# Altium schematic symbol library ARM_DDR.SchLib: 4 symbols
Pins are listed as number, name and electrical type; pins without a type are passive.

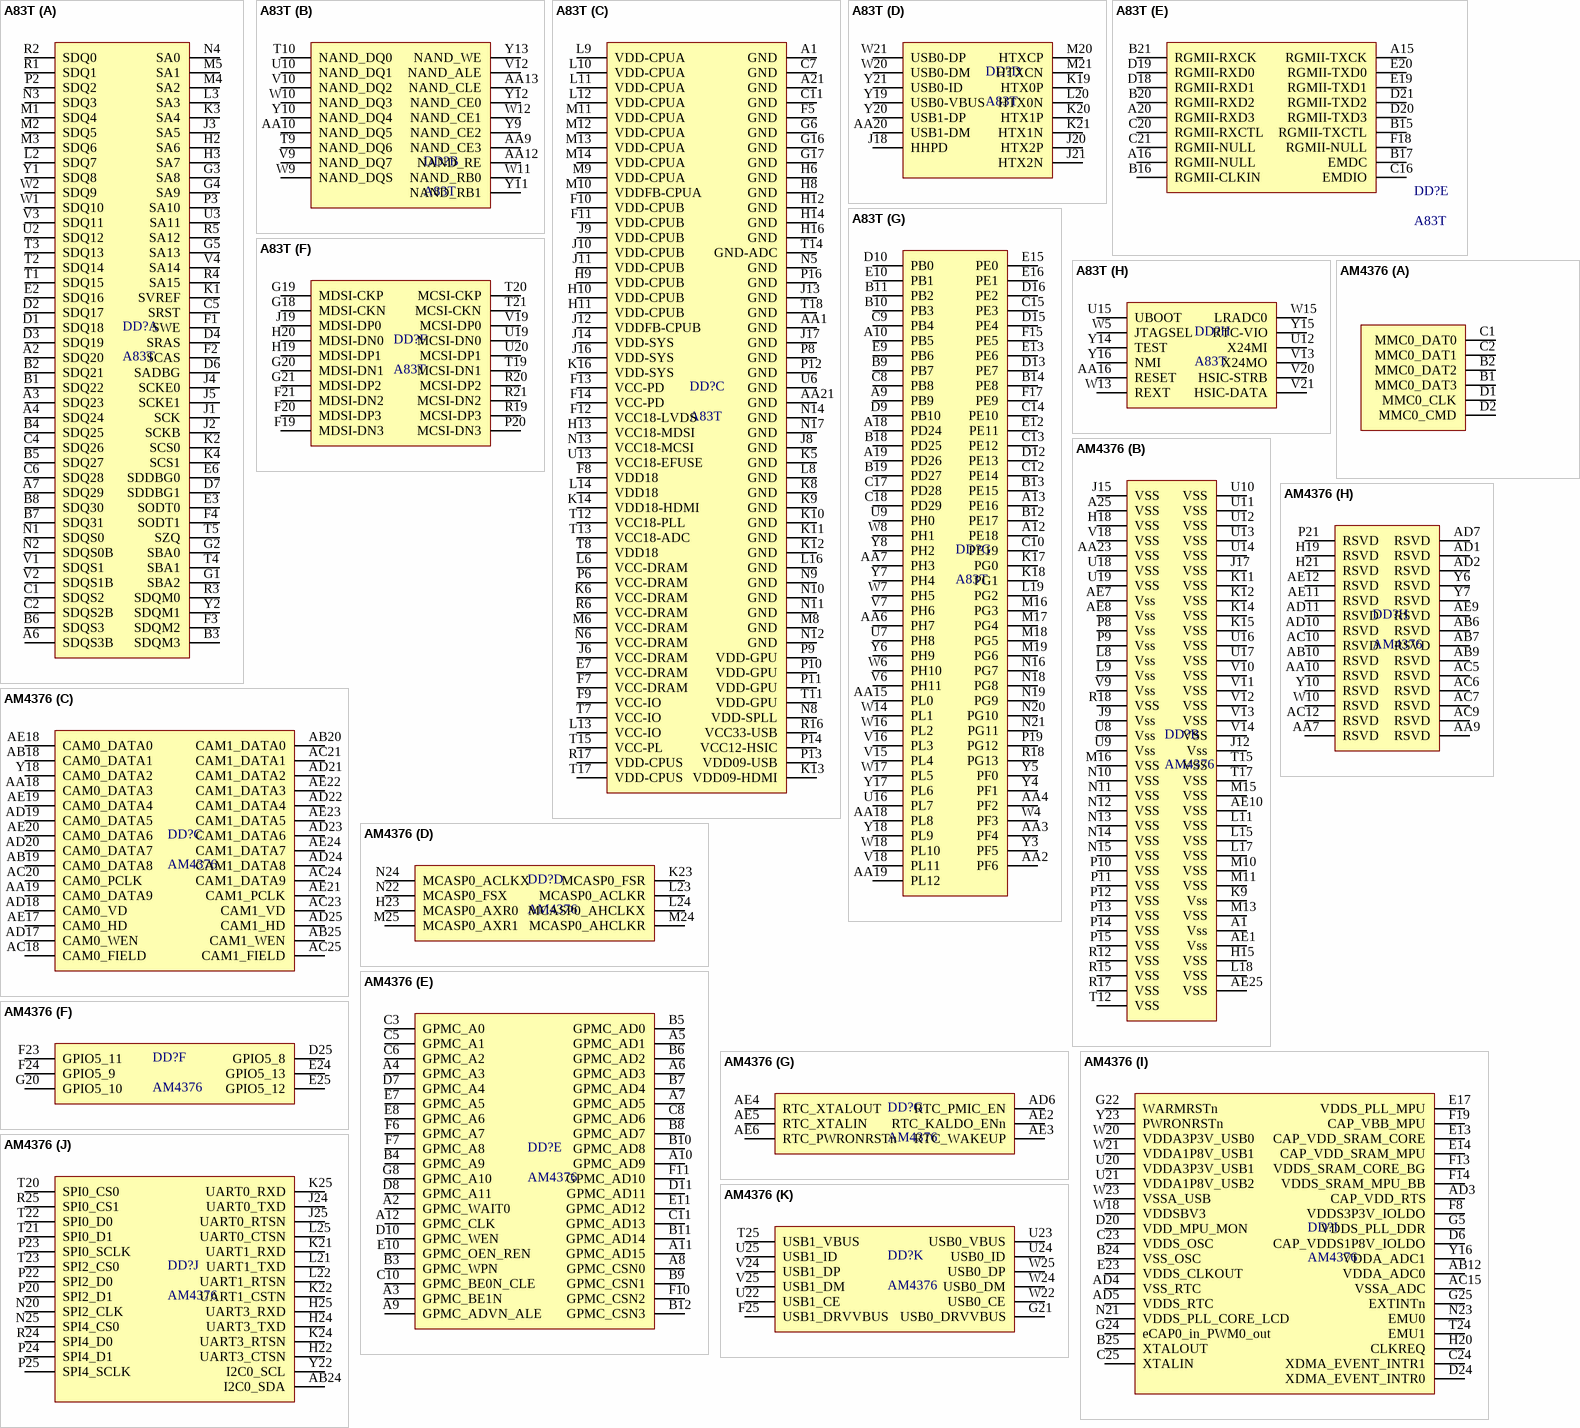
[diagram p0: symbols A83T to AM4376]

## A83T
designator DD?
footprint BGA345
part A pins: A2 SDQ20 (power), A3 SDQ23 (power), A4 SDQ24 (power), A6 SDQS3B (power), A7 SDQ29 (power), B1 SDQ22 (power), B2 SDQ21 (power), B3 SDQM3 (power), B4 SDQ25 (power), B5 SDQ27 (power), B6 SDQS3 (power), B7 SDQ31 (power), B8 SDQ30 (power), C1 SDQS2 (power), C2 SDQS2B (power), C4 SDQ26 (power), C5 SRST (power), C6 SDQ28 (power), D1 SDQ18 (power), D2 SDQ17 (power), D3 SDQ19 (power), D4 SRAS (power), D6 SADBG (power), D7 SDDBG1 (power), E2 SDQ16 (power), E3 SODT0 (power), E6 SDDBG0 (power), F1 SWE (power), F2 SCAS (power), F3 SDQM2 (power), F4 SODT1 (power), G1 SBA2 (power), G2 SBA0 (power), G3 SA8 (power), G4 SA9 (power), G5 SA13 (power), H2 SA6 (power), H3 SA7 (power), J1 SCK (power), J2 SCKB (power), J3 SA5 (power), J4 SCKE0 (power), J5 SCKE1 (power), K1 SVREF (power), K2 SCS0 (power), K3 SA4 (power), K4 SCS1 (power), L2 SDQ7 (power), L3 SA3 (power), M1 SDQ4 (power), M2 SDQ5 (power), M3 SDQ6 (power), M4 SA2 (power), M5 SA1 (power), N1 SDQS0 (power), N2 SDQS0B (power), N3 SDQ3 (power), N4 SA0 (power), P2 SDQ2 (power), P3 SA10 (power), R1 SDQ1 (power), R2 SDQ0 (power), R3 SDQM0 (power), R4 SA15 (power), R5 SA12 (power), T1 SDQ15 (power), T2 SDQ14 (power), T3 SDQ13 (power), T4 SBA1 (power), T5 SZQ (power), U2 SDQ12 (power), U3 SA11 (power), V1 SDQS1 (power), V2 SDQS1B (power), V3 SDQ11 (power), V4 SA14 (power), W1 SDQ10 (power), W2 SDQ9 (power), Y1 SDQ8 (power), Y2 SDQM1 (power)
part B pins: AA9 NAND_CE3 (power), AA10 NAND_DQ5 (power), AA12 NAND_RE (power), AA13 NAND_CLE (power), T9 NAND_DQ6 (power), T10 NAND_DQ0 (power), U10 NAND_DQ1 (power), V9 NAND_DQ7 (power), V10 NAND_DQ2 (power), V12 NAND_ALE (power), W9 NAND_DQS (power), W10 NAND_DQ3 (power), W11 NAND_RB0 (power), W12 NAND_CE1 (power), Y9 NAND_CE2 (power), Y10 NAND_DQ4 (power), Y11 NAND_RB1 (power), Y12 NAND_CE0 (power), Y13 NAND_WE (power)
part C pins: A1 GND (power), A21 GND (power), AA1 GND (power), AA21 GND (power), C7 GND (power), C11 GND (power), E7 VCC-DRAM (power), F5 GND (power), F7 VCC-DRAM (power), F8 VDD18 (power), F9 VCC-IO (power), F10 VDD-CPUB (power), F11 VDD-CPUB (power), F12 VCC18-LVDS (power), F13 VCC-PD (power), F14 VCC-PD (power), G6 GND (power), G16 GND (power), G17 GND (power), H6 GND (power), H8 GND (power), H9 VDD-CPUB (power), H10 VDD-CPUB (power), H11 VDD-CPUB (power), H12 GND (power), H13 VCC18-MDSI (power), H14 GND (power), H16 GND (power), J6 VCC-DRAM (power), J8 GND (power), J9 VDD-CPUB (power), J10 VDD-CPUB (power), J11 VDD-CPUB (power), J12 VDDFB-CPUB (power), J13 GND (power), J14 VDD-SYS (power), J16 VDD-SYS (power), J17 GND (power), K5 GND (power), K6 VCC-DRAM (power), K8 GND (power), K9 GND (power), K10 GND (power), K11 GND (power), K12 GND (power), K13 VDD09-HDMI (power), K14 VDD18-HDMI (power), K16 VDD-SYS (power), L6 VCC-DRAM (power), L8 GND (power), L9 VDD-CPUA (power), L10 VDD-CPUA (power), L11 VDD-CPUA (power), L12 VDD-CPUA (power), L13 VCC-IO (power), L14 VDD18 (power), L16 GND (power), M6 VCC-DRAM (power), M8 GND (power), M9 VDD-CPUA (power), M10 VDDFB-CPUA (power), M11 VDD-CPUA (power), M12 VDD-CPUA (power), M13 VDD-CPUA (power), M14 VDD-CPUA (power), N5 GND (power), N6 VCC-DRAM (power), N8 VDD-SPLL (power), N9 GND (power), N10 GND (power), N11 GND (power), N12 GND (power), N13 VCC18-MCSI (power), N14 GND (power), N17 GND (power), P6 VCC-DRAM (power), P8 GND (power), P9 VDD-GPU (power), P10 VDD-GPU (power), P11 VDD-GPU (power), P12 GND (power), P13 VDD09-USB (power), P14 VCC12-HSIC (power), P16 GND (power), R6 VCC-DRAM (power), R16 VCC33-USB (power), R17 VDD-CPUS (power), T7 VCC-IO (power), T8 VDD18 (power), T11 VDD-GPU (power), T12 VCC18-PLL (power), T13 VCC18-ADC (power), T14 GND-ADC (power), T15 VCC-PL (power), T17 VDD-CPUS (power), T18 GND (power), U6 GND (power), U13 VCC18-EFUSE (power)
part D pins: AA20 USB1-DM (power), J18 HHPD (power), J20 HTX2P (power), J21 HTX2N (power), K19 HTX0P (power), K20 HTX1P (power), K21 HTX1N (power), L20 HTX0N (power), M20 HTXCP (power), M21 HTXCN (power), W20 USB0-DM (power), W21 USB0-DP (power), Y19 USB0-VBUS (power), Y20 USB1-DP (power), Y21 USB0-ID (power)
part E pins: A15 RGMII-TXCK (power), A16 RGMII-NULL (power), A20 RGMII-RXD3 (power), B15 RGMII-TXCTL (power), B16 RGMII-CLKIN (power), B17 EMDC (power), B20 RGMII-RXD2 (power), B21 RGMII-RXCK (power), C16 EMDIO (power), C20 RGMII-RXCTL (power), C21 RGMII-NULL (power), D18 RGMII-RXD1 (power), D19 RGMII-RXD0 (power), D20 RGMII-TXD3 (power), D21 RGMII-TXD2 (power), E19 RGMII-TXD1 (power), E20 RGMII-TXD0 (power), F18 RGMII-NULL (power)
part F pins: F19 MDSI-DN3 (power), F20 MDSI-DP3 (power), F21 MDSI-DN2 (power), G18 MDSI-CKN (power), G19 MDSI-CKP (power), G20 MDSI-DN1 (power), G21 MDSI-DP2 (power), H19 MDSI-DP1 (power), H20 MDSI-DN0 (power), J19 MDSI-DP0 (power), P20 MCSI-DN3 (power), R19 MCSI-DP3 (power), R20 MCSI-DP2 (power), R21 MCSI-DN2 (power), T19 MCSI-DN1 (power), T20 MCSI-CKP (power), T21 MCSI-CKN (power), U19 MCSI-DN0 (power), U20 MCSI-DP1 (power), V19 MCSI-DP0 (power)
part G pins: A9 PB9 (power), A10 PB5 (power), A12 PE18 (power), A13 PE16 (power), A18 PD24 (power), A19 PD26 (power), AA2 PF6 (power), AA3 PF4 (power), AA4 PF2 (power), AA6 PH7 (power), AA7 PH3 (power), AA15 PL0 (power), AA18 PL8 (power), AA19 PL12 (power), B9 PB7 (power), B10 PB3 (power), B11 PB2 (power), B12 PE17 (power), B13 PE15 (power), B14 PE8 (power), B18 PD25 (power), B19 PD27 (power), C8 PB8 (power), C9 PB4 (power), C10 PE19 (power), C12 PE14 (power), C13 PE12 (power), C14 PE10 (power), C15 PE3 (power), C17 PD28 (power), C18 PD29 (power), D9 PB10 (power), D10 PB0 (power), D12 PE13 (power), D13 PE7 (power), D15 PE4 (power), D16 PE2 (power), E9 PB6 (power), E10 PB1 (power), E12 PE11 (power), E13 PE6 (power), E15 PE0 (power), E16 PE1 (power), F15 PE5 (power), F17 PE9 (power), K17 PG0 (power), K18 PG1 (power), L19 PG2 (power), M16 PG3 (power), M17 PG4 (power), M18 PG5 (power), M19 PG6 (power), N16 PG7 (power), N18 PG8 (power), N19 PG9 (power), N20 PG10 (power), N21 PG11 (power), P19 PG12 (power), R18 PG13 (power), U7 PH8 (power), U9 PH0 (power), U16 PL7 (power), V6 PH11 (power), V7 PH6 (power), V15 PL4 (power), V16 PL3 (power), V18 PL11 (power), W4 PF3 (power), W6 PH10 (power), W7 PH5 (power), W8 PH1 (power), W14 PL1 (power), W16 PL2 (power), W17 PL5 (power), W18 PL10 (power), Y3 PF5 (power), Y4 PF1 (power), Y5 PF0 (power), Y6 PH9 (power), Y7 PH4 (power), Y8 PH2 (power), Y17 PL6 (power), Y18 PL9 (power)
part H pins: AA16 RESET (power), U12 X24MI (power), U15 UBOOT (power), V13 X24MO (power), V20 HSIC-STRB (power), V21 HSIC-DATA (power), W5 JTAGSEL (power), W13 REXT (power), W15 LRADC0 (power), Y14 TEST (power), Y15 RTC-VIO (power), Y16 NMI (power)

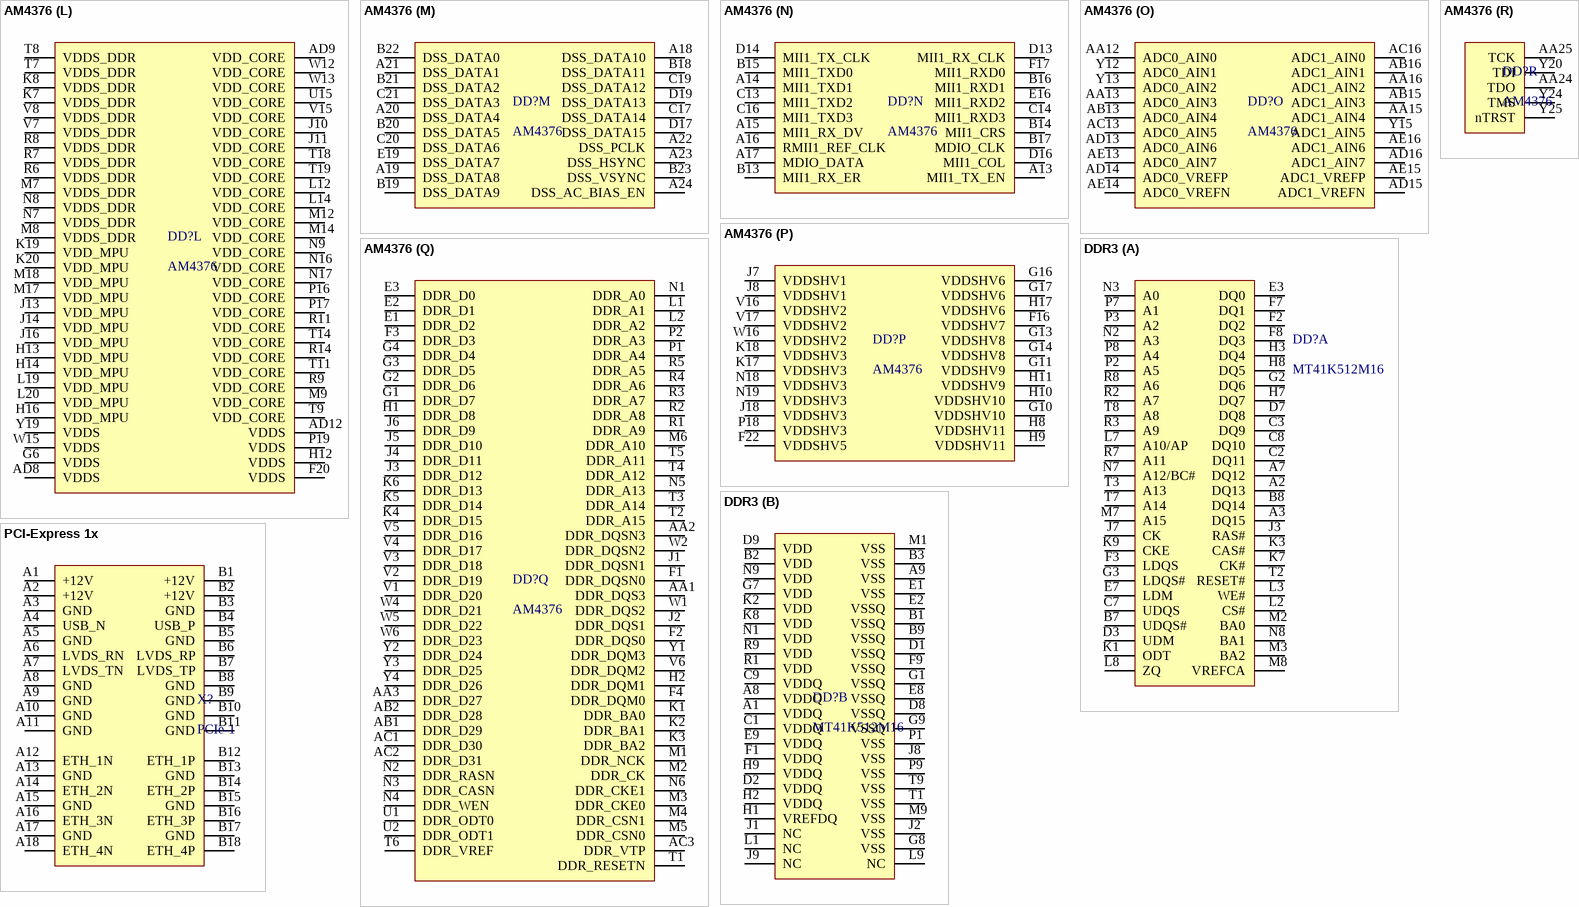
[diagram p1: symbols AM4376 to PCI-Express 1x]

## AM4376
designator DD?
footprint BGA491
part A pins: B1 MMC0_DAT3 (power), B2 MMC0_DAT2 (power), C1 MMC0_DAT0 (power), C2 MMC0_DAT1 (power), D1 MMC0_CLK (power), D2 MMC0_CMD (power)
part B pins: A1 Vss (power), A25 VSS (power), AA23 VSS (power), AE1 Vss (power), AE7 Vss (power), AE8 Vss (power), AE10 VSS (power), AE25 VSS (power), H15 VSS (power), H18 VSS (power), J9 Vss (power), J12 Vss (power), J15 VSS (power), J17 VSS (power), K9 Vss (power), K11 VSS (power), K12 VSS (power), K14 VSS (power), K15 VSS (power), L8 Vss (power), L9 Vss (power), L11 VSS (power), L15 VSS (power), L17 VSS (power), L18 VSS (power), M10 VSS (power), M11 VSS (power), M13 VSS (power), M15 VSS (power), M16 VSS (power), N10 VSS (power), N11 VSS (power), N12 VSS (power), N13 VSS (power), N14 VSS (power), N15 VSS (power), P8 Vss (power), P9 Vss (power), P10 VSS (power), P11 VSS (power), P12 VSS (power), P13 VSS (power), P14 VSS (power), P15 VSS (power), R12 VSS (power), R15 VSS (power), R17 VSS (power), R18 VSS (power), T12 VSS (power), T15 VSS (power), T17 VSS (power), U8 Vss (power), U9 Vss (power), U10 VSS (power), U11 VSS (power), U12 VSS (power), U13 VSS (power), U14 VSS (power), U16 VSS (power), U17 VSS (power), U18 VSS (power), U19 VSS (power), V9 Vss (power), V10 VSS (power), V11 VSS (power), V12 VSS (power), V13 VSS (power), V14 VSS (power), V18 VSS (power)
part C pins: AA18 CAM0_DATA3 (power), AA19 CAM0_DATA9 (power), AB18 CAM0_DATA1 (power), AB19 CAM0_DATA8 (power), AB20 CAM1_DATA0 (power), AB25 CAM1_WEN (power), AC18 CAM0_FIELD (power), AC20 CAM0_PCLK (power), AC21 CAM1_DATA1 (power), AC23 CAM1_VD (power), AC24 CAM1_DATA9 (power), AC25 CAM1_FIELD (power), AD17 CAM0_WEN (power), AD18 CAM0_VD (power), AD19 CAM0_DATA5 (power), AD20 CAM0_DATA7 (power), AD21 CAM1_DATA2 (power), AD22 CAM1_DATA4 (power), AD23 CAM1_DATA6 (power), AD24 CAM1_DATA8 (power), AD25 CAM1_HD (power), AE17 CAM0_HD (power), AE18 CAM0_DATA0 (power), AE19 CAM0_DATA4 (power), AE20 CAM0_DATA6 (power), AE21 CAM1_PCLK (power), AE22 CAM1_DATA3 (power), AE23 CAM1_DATA5 (power), AE24 CAM1_DATA7 (power), Y18 CAM0_DATA2 (power)
part D pins: H23 MCASP0_AXR0 (power), K23 MCASP0_FSR (power), L23 MCASP0_ACLKR (power), L24 MCASP0_AHCLKX (power), M24 MCASP0_AHCLKR (power), M25 MCASP0_AXR1 (power), N22 MCASP0_FSX (power), N24 MCASP0_ACLKX (power)
part E pins: A2 GPMC_WAIT0 (power), A3 GPMC_BE1N (power), A4 GPMC_A3 (power), A5 GPMC_AD1 (power), A6 GPMC_AD3 (power), A7 GPMC_AD5 (power), A8 GPMC_CSN0 (power), A9 GPMC_ADVN_ALE (power), A10 GPMC_AD9 (power), A11 GPMC_AD15 (power), A12 GPMC_CLK (power), B3 GPMC_WPN (power), B4 GPMC_A9 (power), B5 GPMC_AD0 (power), B6 GPMC_AD2 (power), B7 GPMC_AD4 (power), B8 GPMC_AD7 (power), B9 GPMC_CSN1 (power), B10 GPMC_AD8 (power), B11 GPMC_AD14 (power), B12 GPMC_CSN3 (power), C3 GPMC_A0 (power), C5 GPMC_A1 (power), C6 GPMC_A2 (power), C8 GPMC_AD6 (power), C10 GPMC_BE0N_CLE (power), C11 GPMC_AD13 (power), D7 GPMC_A4 (power), D8 GPMC_A11 (power), D10 GPMC_WEN (power), D11 GPMC_AD11 (power), E7 GPMC_A5 (power), E8 GPMC_A6 (power), E10 GPMC_OEN_REN (power), E11 GPMC_AD12 (power), F6 GPMC_A7 (power), F7 GPMC_A8 (power), F10 GPMC_CSN2 (power), F11 GPMC_AD10 (power), G8 GPMC_A10 (power)
part F pins: D25 GPIO5_8 (power), E24 GPIO5_13 (power), E25 GPIO5_12 (power), F23 GPIO5_11 (power), F24 GPIO5_9 (power), G20 GPIO5_10 (power)
part G pins: AD6 RTC_PMIC_EN (power), AE2 RTC_KALDO_ENn (power), AE3 RTC_WAKEUP (power), AE4 RTC_XTALOUT (power), AE5 RTC_XTALIN (power), AE6 RTC_PWRONRSTn (power)
part H pins: AA7 RSVD (power), AA9 RSVD (power), AA10 RSVD (power), AB6 RSVD (power), AB7 RSVD (power), AB9 RSVD (power), AB10 RSVD (power), AC5 RSVD (power), AC6 RSVD (power), AC7 RSVD (power), AC9 RSVD (power), AC10 RSVD (power), AC12 RSVD (power), AD1 RSVD (power), AD2 RSVD (power), AD7 RSVD (power), AD10 RSVD (power), AD11 RSVD (power), AE9 RSVD (power), AE11 RSVD (power), AE12 RSVD (power), H19 RSVD (power), H21 RSVD (power), P21 RSVD (power), W10 RSVD (power), Y6 RSVD (power), Y7 RSVD (power), Y10 RSVD (power)
part I pins: AB12 VDDA_ADC0 (power), AC15 VSSA_ADC (power), AD3 CAP_VDD_RTS (power), AD4 VSS_RTC (power), AD5 VDDS_RTC (power), B24 VSS_OSC (power), B25 XTALOUT (power), C23 VDDS_OSC (power), C24 XDMA_EVENT_INTR1 (power), C25 XTALIN (power), D6 CAP_VDDS1P8V_IOLDO (power), D20 VDD_MPU_MON (power), D24 XDMA_EVENT_INTR0 (power), E13 CAP_VDD_SRAM_CORE (power), E14 CAP_VDD_SRAM_MPU (power), E17 VDDS_PLL_MPU (power), E23 VDDS_CLKOUT (power), F8 VDDS3P3V_IOLDO (power), F13 VDDS_SRAM_CORE_BG (power), F14 VDDS_SRAM_MPU_BB (power), F19 CAP_VBB_MPU (power), G5 VDDS_PLL_DDR (power), G22 WARMRSTn (power), G24 eCAP0_in_PWM0_out (power), G25 EXTINTn (power), H20 CLKREQ (power), N21 VDDS_PLL_CORE_LCD (power), N23 EMU0 (power), T24 EMU1 (power), U20 VDDA3P3V_USB1 (power), U21 VDDA1P8V_USB2 (power), W18 VDDSBV3 (power), W20 VDDA3P3V_USB0 (power), W21 VDDA1P8V_USB1 (power), W23 VSSA_USB (power), Y16 VDDA_ADC1 (power), Y23 PWRONRSTn (power)
part J pins: AB24 I2C0_SDA (power), H22 UART3_CTSN (power), H24 UART3_TXD (power), H25 UART3_RXD (power), J24 UART0_TXD (power), J25 UART0_RTSN (power), K21 UART1_RXD (power), K22 UART1_CSTN (power), K24 UART3_RTSN (power), K25 UART0_RXD (power), L21 UART1_TXD (power), L22 UART1_RTSN (power), L25 UART0_CTSN (power), N20 SPI2_CLK (power), N25 SPI4_CS0 (power), P20 SPI2_D1 (power), P22 SPI2_D0 (power), P23 SPI0_SCLK (power), P24 SPI4_D1 (power), P25 SPI4_SCLK (power), R24 SPI4_D0 (power), R25 SPI0_CS1 (power), T20 SPI0_CS0 (power), T21 SPI0_D1 (power), T22 SPI0_D0 (power), T23 SPI2_CS0 (power), Y22 I2C0_SCL (power)
part K pins: F25 USB1_DRVVBUS (power), G21 USB0_DRVVBUS (power), T25 USB1_VBUS (power), U22 USB1_CE (power), U23 USB0_VBUS (power), U24 USB0_ID (power), U25 USB1_ID (power), V24 USB1_DP (power), V25 USB1_DM (power), W22 USB0_CE (power), W24 USB0_DM (power), W25 USB0_DP (power)
part L pins: AD8 VDDS (power), AD9 VDD_CORE (power), AD12 VDDS (power), F20 VDDS (power), G6 VDDS (power), H12 VDDS (power), H13 VDD_MPU (power), H14 VDD_MPU (power), H16 VDD_MPU (power), J10 VDD_CORE (power), J11 VDD_CORE (power), J13 VDD_MPU (power), J14 VDD_MPU (power), J16 VDD_MPU (power), K7 VDDS_DDR (power), K8 VDDS_DDR (power), K19 VDD_MPU (power), K20 VDD_MPU (power), L12 VDD_CORE (power), L14 VDD_CORE (power), L19 VDD_MPU (power), L20 VDD_MPU (power), M7 VDDS_DDR (power), M8 VDDS_DDR (power), M9 VDD_CORE (power), M12 VDD_CORE (power), M14 VDD_CORE (power), M17 VDD_MPU (power), M18 VDD_MPU (power), N7 VDDS_DDR (power), N8 VDDS_DDR (power), N9 VDD_CORE (power), N16 VDD_CORE (power), N17 VDD_CORE (power), P16 VDD_CORE (power), P17 VDD_CORE (power), P19 VDDS (power), R6 VDDS_DDR (power), R7 VDDS_DDR (power), R8 VDDS_DDR (power), R9 VDD_CORE (power), R11 VDD_CORE (power), R14 VDD_CORE (power), T7 VDDS_DDR (power), T8 VDDS_DDR (power), T9 VDD_CORE (power), T11 VDD_CORE (power), T14 VDD_CORE (power), T18 VDD_CORE (power), T19 VDD_CORE (power), U15 VDD_CORE (power), V7 VDDS_DDR (power), V8 VDDS_DDR (power), V15 VDD_CORE (power), W12 VDD_CORE (power), W13 VDD_CORE (power), W15 VDDS (power), Y19 VDDS (power)
part M pins: A18 DSS_DATA10 (power), A19 DSS_DATA8 (power), A20 DSS_DATA4 (power), A21 DSS_DATA1 (power), A22 DSS_PCLK (power), A23 DSS_HSYNC (power), A24 DSS_AC_BIAS_EN (power), B18 DSS_DATA11 (power), B19 DSS_DATA9 (power), B20 DSS_DATA5 (power), B21 DSS_DATA2 (power), B22 DSS_DATA0 (power), B23 DSS_VSYNC (power), C17 DSS_DATA14 (power), C19 DSS_DATA12 (power), C20 DSS_DATA6 (power), C21 DSS_DATA3 (power), D17 DSS_DATA15 (power), D19 DSS_DATA13 (power), E19 DSS_DATA7 (power)
part N pins: A13 MII1_TX_EN (power), A14 MII1_TXD1 (power), A15 MII1_RX_DV (power), A16 RMII1_REF_CLK (power), A17 MDIO_DATA (power), B13 MII1_RX_ER (power), B14 MII1_CRS (power), B15 MII1_TXD0 (power), B16 MII1_RXD1 (power), B17 MDIO_CLK (power), C13 MII1_TXD2 (power), C14 MII1_RXD3 (power), C16 MII1_TXD3 (power), D13 MII1_RX_CLK (power), D14 MII1_TX_CLK (power), D16 MII1_COL (power), E16 MII1_RXD2 (power), F17 MII1_RXD0 (power)
part O pins: AA12 ADC0_AIN0 (power), AA13 ADC0_AIN3 (power), AA15 ADC1_AIN4 (power), AA16 ADC1_AIN2 (power), AB13 ADC0_AIN4 (power), AB15 ADC1_AIN3 (power), AB16 ADC1_AIN1 (power), AC13 ADC0_AIN5 (power), AC16 ADC1_AIN0 (power), AD13 ADC0_AIN6 (power), AD14 ADC0_VREFP (power), AD15 ADC1_VREFN (power), AD16 ADC1_AIN7 (power), AE13 ADC0_AIN7 (power), AE14 ADC0_VREFN (power), AE15 ADC1_VREFP (power), AE16 ADC1_AIN6 (power), Y12 ADC0_AIN1 (power), Y13 ADC0_AIN2 (power), Y15 ADC1_AIN5 (power)
part P pins: F16 VDDSHV7 (power), F22 VDDSHV5 (power), G10 VDDSHV10 (power), G11 VDDSHV9 (power), G13 VDDSHV8 (power), G14 VDDSHV8 (power), G16 VDDSHV6 (power), G17 VDDSHV6 (power), H8 VDDSHV11 (power), H9 VDDSHV11 (power), H10 VDDSHV10 (power), H11 VDDSHV9 (power), H17 VDDSHV6 (power), J7 VDDSHV1 (power), J8 VDDSHV1 (power), J18 VDDSHV3 (power), K17 VDDSHV3 (power), K18 VDDSHV3 (power), N18 VDDSHV3 (power), N19 VDDSHV3 (power), P18 VDDSHV3 (power), V16 VDDSHV2 (power), V17 VDDSHV2 (power), W16 VDDSHV2 (power)
part Q pins: AA1 DDR_DQS3 (power), AA2 DDR_DQSN3 (power), AA3 DDR_D27 (power), AB1 DDR_D29 (power), AB2 DDR_D28 (power), AC1 DDR_D30 (power), AC2 DDR_D31 (power), AC3 DDR_VTP (power), E1 DDR_D2 (power), E2 DDR_D1 (power), E3 DDR_D0 (power), F1 DDR_DQSN0 (power), F2 DDR_DQS0 (power), F3 DDR_D3 (power), F4 DDR_DQM0 (power), G1 DDR_D7 (power), G2 DDR_D6 (power), G3 DDR_D5 (power), G4 DDR_D4 (power), H1 DDR_D8 (power), H2 DDR_DQM1 (power), J1 DDR_DQSN1 (power), J2 DDR_DQS1 (power), J3 DDR_D12 (power), J4 DDR_D11 (power), J5 DDR_D10 (power), J6 DDR_D9 (power), K1 DDR_BA0 (power), K2 DDR_BA1 (power), K3 DDR_BA2 (power), K4 DDR_D15 (power), K5 DDR_D14 (power), K6 DDR_D13 (power), L1 DDR_A1 (power), L2 DDR_A2 (power), M1 DDR_NCK (power), M2 DDR_CK (power), M3 DDR_CKE0 (power), M4 DDR_CSN1 (power), M5 DDR_CSN0 (power), M6 DDR_A10 (power), N1 DDR_A0 (power), N2 DDR_RASN (power), N3 DDR_CASN (power), N4 DDR_WEN (power), N5 DDR_A13 (power), N6 DDR_CKE1 (power), P1 DDR_A4 (power), P2 DDR_A3 (power), R1 DDR_A9 (power), R2 DDR_A8 (power), R3 DDR_A7 (power), R4 DDR_A6 (power), R5 DDR_A5 (power), T1 DDR_RESETN (power), T2 DDR_A15 (power), T3 DDR_A14 (power), T4 DDR_A12 (power), T5 DDR_A11 (power), T6 DDR_VREF (power), U1 DDR_ODT0 (power), U2 DDR_ODT1 (power), V1 DDR_D20 (power), V2 DDR_D19 (power), V3 DDR_D18 (power), V4 DDR_D17 (power), V5 DDR_D16 (power), V6 DDR_DQM2 (power), W1 DDR_DQS2 (power), W2 DDR_DQSN2 (power), W4 DDR_D21 (power), W5 DDR_D22 (power), W6 DDR_D23 (power), Y1 DDR_DQM3 (power), Y2 DDR_D24 (power), Y3 DDR_D25 (power), Y4 DDR_D26 (power)
part R pins: AA24 TDO (power), AA25 TCK (power), Y20 TDI (power), Y24 TMS (power), Y25 nTRST (power)

## DDR3
designator DD?, comment MT41K512M16
footprint DDR3-96
part A pins: A2 DQ13 (power), A3 DQ15 (power), A7 DQ12 (power), B7 UDQS# (power), B8 DQ14 (power), C2 DQ11 (power), C3 DQ9 (power), C7 UDQS (power), C8 DQ10 (power), D3 UDM (power), D7 DQ8 (power), E3 DQ0 (power), E7 LDM (power), F2 DQ2 (power), F3 LDQS (power), F7 DQ1 (power), F8 DQ3 (power), G2 DQ6 (power), G3 LDQS# (power), H3 DQ4 (power), H7 DQ7 (power), H8 DQ5 (power), J3 RAS# (power), J7 CK (power), K1 ODT (power), K3 CAS# (power), K7 CK# (power), K9 CKE (power), L2 CS# (power), L3 WE# (power), L7 A10/AP (power), L8 ZQ (power), M2 BA0 (power), M3 BA2 (power), M7 A15 (power), M8 VREFCA (power), N2 A3 (power), N3 A0 (power), N7 A12/BC# (power), N8 BA1 (power), P2 A5 (power), P3 A2 (power), P7 A1 (power), P8 A4 (power), R2 A7 (power), R3 A9 (power), R7 A11 (power), R8 A6 (power), T2 RESET# (power), T3 A13 (power), T7 A14 (power), T8 A8 (power)
part B pins: A1 VDDQ (power), A8 VDDQ (power), A9 VSS (power), B1 VSSQ (power), B2 VDD (power), B3 VSS (power), B9 VSSQ (power), C1 VDDQ (power), C9 VDDQ (power), D1 VSSQ (power), D2 VDDQ (power), D8 VSSQ (power), D9 VDD (power), E1 VSS (power), E2 VSSQ (power), E8 VSSQ (power), E9 VDDQ (power), F1 VDDQ (power), F9 VSSQ (power), G1 VSSQ (power), G7 VDD (power), G8 VSS (power), G9 VSSQ (power), H1 VREFDQ (power), H2 VDDQ (power), H9 VDDQ (power), J1 NC (power), J2 VSS (power), J8 VSS (power), J9 NC (power), K2 VDD (power), K8 VDD (power), L1 NC (power), L9 NC (power), M1 VSS (power), M9 VSS (power), N1 VDD (power), N9 VDD (power), P1 VSS (power), P9 VSS (power), R1 VDD (power), R9 VDD (power), T1 VSS (power), T9 VSS (power)

## PCI-Express 1x
designator X?, comment PCIe-1
footprint PCI-Express 1x
pins: A1 +12V (power), A2 +12V (power), A3 GND (power), A4 USB_N (power), A5 GND (power), A6 LVDS_RN (power), A7 LVDS_TN (power), A8 GND (power), A9 GND (power), A10 GND (power), A11 GND (power), A12 ETH_1N (power), A13 GND (power), A14 ETH_2N (power), A15 GND (power), A16 ETH_3N (power), A17 GND (power), A18 ETH_4N (power), B1 +12V (power), B2 +12V (power), B3 GND (power), B4 USB_P (power), B5 GND (power), B6 LVDS_RP (power), B7 LVDS_TP (power), B8 GND (power), B9 GND (power), B10 GND (power), B11 GND (power), B12 ETH_1P (power), B13 GND (power), B14 ETH_2P (power), B15 GND (power), B16 ETH_3P (power), B17 GND (power), B18 ETH_4P (power)